# Altium schematic symbol library 开发板设计库.SchLib: 55 symbols
Pins are listed as number, name and electrical type; pins without a type are passive.

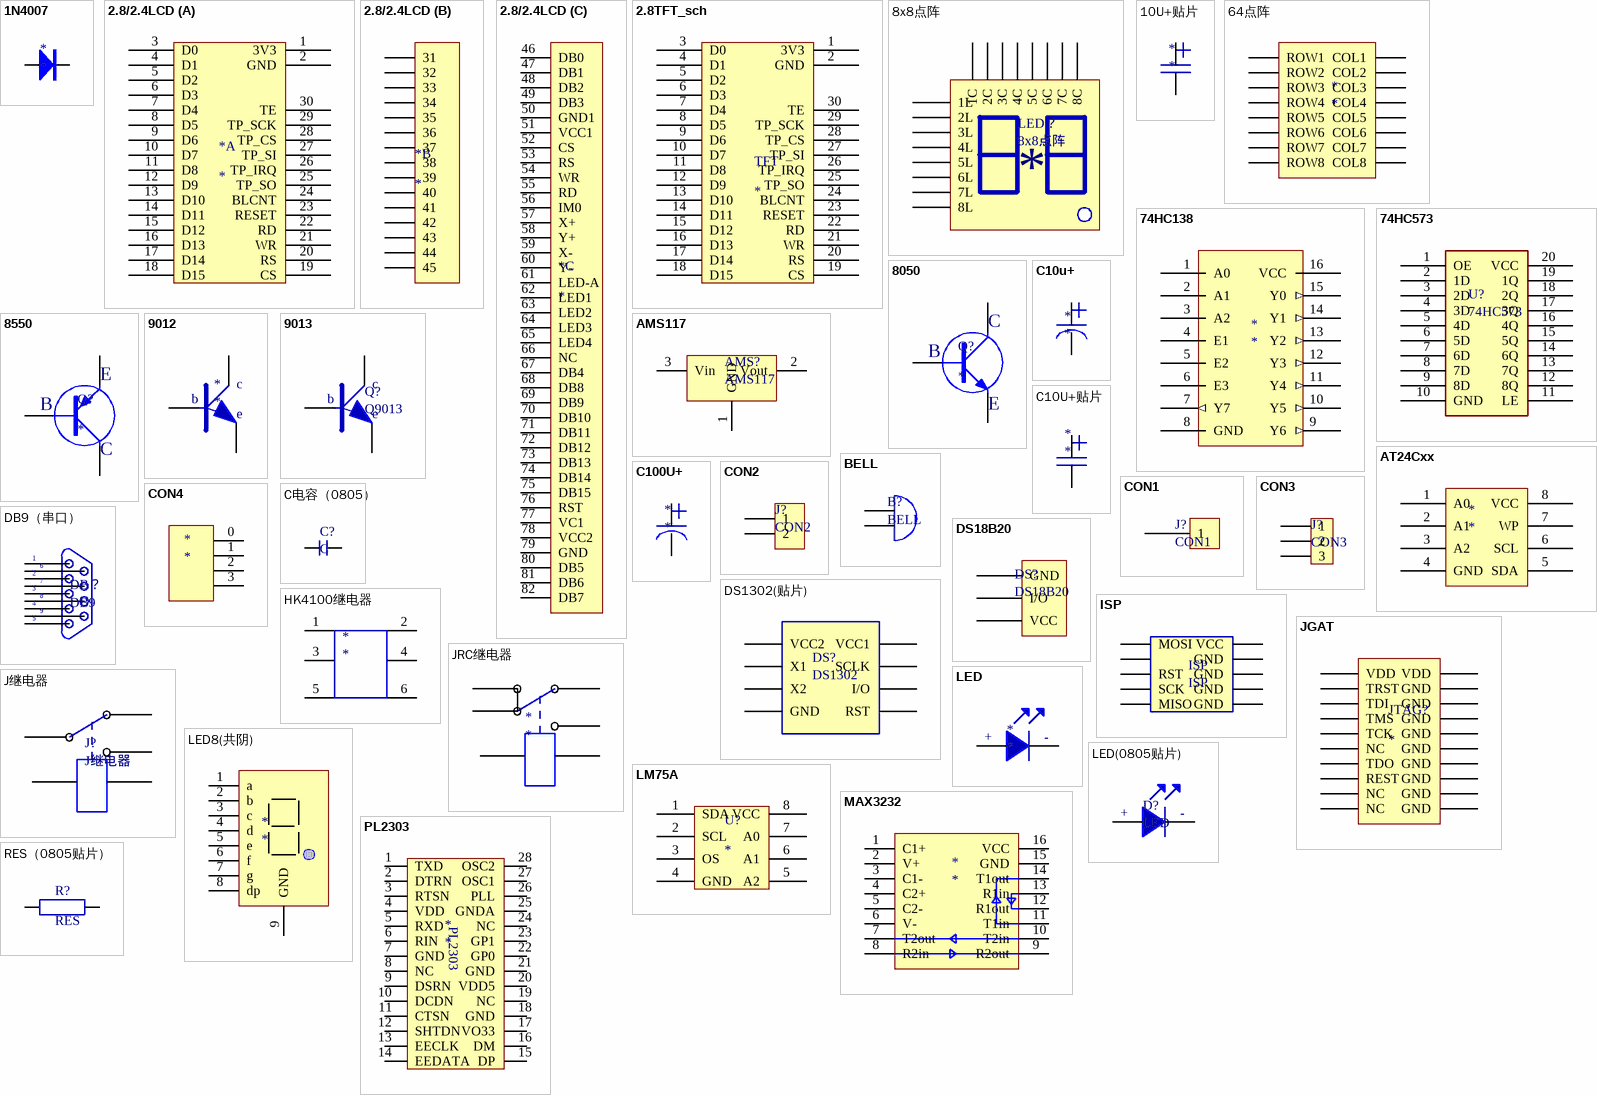
[diagram p0: symbols 1N4007 to RES（0805贴片）]

## 1N4007
designator *
pins: 0, 1

## 2.8/2.4LCD
designator *
footprint 2.8TFT_SCH - duplicate
part A pins: 1 3V3, 2 GND, 3 D0, 4 D1, 5 D2, 6 D3, 7 D4, 8 D5, 9 D6, 10 D7, 11 D8, 12 D9, 13 D10, 14 D11, 15 D12, 16 D13, 17 D14, 18 D15, 19 CS, 20 RS, 21 WR, 22 RD, 23 RESET, 24 BLCNT, 25 TP_SO, 26 TP_IRQ, 27 TP_SI, 28 TP_CS, 29 TP_SCK, 30 TE
part B pins: 31, 32, 33, 34, 35, 36, 37, 38, 39, 40, 41, 42, 43, 44, 45
part C pins: 46 DB0, 47 DB1, 48 DB2, 49 DB3, 50 GND1, 51 VCC1, 52 CS, 53 RS, 54 WR, 55 RD, 56 IM0, 57 X+, 58 Y+, 59 X-, 60 Y-, 61 LED-A, 62 LED1, 63 LED2, 64 LED3, 65 LED4, 66 NC, 67 DB4, 68 DB8, 69 DB9, 70 DB10, 71 DB11, 72 DB12, 73 DB13, 74 DB14, 75 DB15, 76 RST, 77 VC1, 78 VCC2, 79 GND, 80 DB5, 81 DB6, 82 DB7

## 2.8TFT_sch
designator TFT
footprint 2.8TFT_sch
pins: 1 3V3, 2 GND, 3 D0, 4 D1, 5 D2, 6 D3, 7 D4, 8 D5, 9 D6, 10 D7, 11 D8, 12 D9, 13 D10, 14 D11, 15 D12, 16 D13, 17 D14, 18 D15, 19 CS, 20 RS, 21 WR, 22 RD, 23 RESET, 24 BLCNT, 25 TP_SO, 26 TP_IRQ, 27 TP_SI, 28 TP_CS, 29 TP_SCK, 30 TE

## 8x8点阵
designator LED？
footprint 8x8点阵
pins: 1 5L, 2 7L, 3 2C, 4 3C, 5 8L, 6 5C, 7 6L, 8 3L, 9 1L, 10 4C, 11 6C, 12 4L, 13 1C, 14 2L, 15 7C, 16 8C

## 10U+贴片
designator *
footprint 10U+贴片
pins: 0, 1

## 64点阵
designator *
footprint 64点阵357mm
pins: 1 ROW1, 2 ROW2, 3 ROW3, 4 ROW4, 5 ROW5, 6 ROW6, 7 ROW7, 8 ROW8, 9 COL8, 10 COL7, 11 COL6, 12 COL5, 13 COL4, 14 COL3, 15 COL2, 16 COL1

## 74HC138
designator *
footprint 74HC138
pins: 1 A0, 2 A1, 3 A2, 4 E1, 5 E2, 6 E3, 7 Y7 (out), 8 GND, 9 Y6 (out), 10 Y5 (out), 11 Y4 (out), 12 Y3 (out), 13 Y2 (out), 14 Y1 (out), 15 Y0 (out), 16 VCC

## 74HC573
designator U?
footprint 74HC573
pins: 1 OE, 2 1D, 3 2D, 4 3D, 5 4D, 6 5D, 7 6D, 8 7D, 9 8D, 10 GND, 11 LE, 12 8Q, 13 7Q, 14 6Q, 15 5Q, 16 4Q, 17 3Q, 18 2Q, 19 1Q, 20 VCC

## 8050
designator Q?
footprint 8050
pins: 1 C, 2 B, 3 E

## 8550
designator Q?
footprint 8550
pins: 1 E, 2 B, 3 C

## 9012
designator *
pins: 1, 2, 3
text: c; b; e

## 9013
designator Q?, comment Q9013
footprint 9013
pins: 1, 2, 3
text: c; b; e

## AMS117
designator AMS?
footprint AMS117
pins: 1 GND, 2 Vout, 3 Vin

## AT24Cxx
designator *
footprint AT24Cxx
pins: 1 A0, 2 A1, 3 A2, 4 GND, 5 SDA, 6 SCL, 7 WP, 8 VCC

## BELL
designator B?
footprint BELL
pins: 1, 2

## C10u+
designator *
footprint C10U+
pins: 0, 1

## C10U+贴片
designator *
footprint C10U+(贴片)
pins: 0, 1

## C100U+
designator *
footprint C100U+
pins: 0, 1

## CON1
designator J?
footprint CON1
pins: 1

## CON2
designator J?
footprint CON2
pins: 1, 2

## CON3
designator J?
footprint CON3
pins: 1, 2, 3

## CON4
designator *
footprint CON4
pins: 0, 1, 2, 3

## C电容（0805）
designator C?, comment C
footprint 0805
pins: 1, 2

## DB9（串口）
designator DB？, comment DB9
footprint DB9（串口）
pins: 1, 2, 3, 4, 5, 6, 7, 8, 9

## DS18B20
designator DS?
footprint DS18B20
pins: 1 GND, 2 I/O, 3 VCC

## DS1302(贴片)
designator DS?, comment DS1302
footprint DS1302(贴片)
pins: 1 VCC2, 2 X1, 3 X2, 4 GND, 5 RST, 6 I/O, 7 SCLK, 8 VCC1

## HK4100继电器
designator *
footprint HK4100继电器
pins: 1, 2, 3, 4, 5, 6

## ISP
designator ISP
footprint ISP
pins: 1 MOSI, 2, 3 RST, 4 SCK, 5 MISO, 6 GND, 7 GND, 8 GND, 9 GND, 10 VCC

## JGAT
designator JTAG?
footprint JTAG
pins: 1 VDD, 2 VDD, 3 TRST, 4 GND, 5 TDI, 6 GND, 7 TMS, 8 GND, 9 TCK, 10 GND, 11 NC, 12 GND, 13 TDO, 14 GND, 15 REST, 16 GND, 17 NC, 18 GND, 19 NC, 20 GND

## JRC继电器
designator *
footprint JRC继电器
pins: 1, 2, 3, 4, 5, 6

## J继电器
designator J?
footprint J继电器
pins: 1, 2, 3, 4, 5

## LED
designator *
footprint LED
footprint LED
footprint LEDSMALL
pins: 1, 2
text: +; -

## LED8(共阴)
designator *
footprint LED8（共阴）
pins: 1 a, 2 b, 3 c, 4 d, 5 e, 6 f, 7 g, 8 dp, 9 GND

## LED(0805贴片)
designator D?, comment LED
footprint 0805
pins: 1, 2
text: +; -

## LM75A
designator U?
footprint LM75A
pins: 1 SDA, 2 SCL, 3 OS, 4 GND, 5 A2, 6 A1, 7 A0, 8 VCC

## MAX3232
designator *
footprint MAX3232
pins: 1 C1+, 2 V+, 3 C1-, 4 C2+, 5 C2-, 6 V-, 7 T2out, 8 R2in, 9 R2out, 10 T2in, 11 T1in, 12 R1out, 13 R1in, 14 T1out, 15 GND, 16 VCC

## PL2303
designator *
footprint PL2303
pins: 1 TXD, 2 DTRN, 3 RTSN, 4 VDD, 5 RXD, 6 RIN, 7 GND, 8 NC, 9 DSRN, 10 DCDN, 11 CTSN, 12 SHTDN, 13 EECLK, 14 EEDATA, 15 DP, 16 DM, 17 VO33, 18 GND, 19 NC, 20 VDD5, 21 GND, 22 GP0, 23 GP1, 24 NC, 25 GNDA, 26 PLL, 27 OSC1, 28 OSC2

## RES（0805贴片）
designator R?, comment RES
footprint 0805
pins: 1, 2

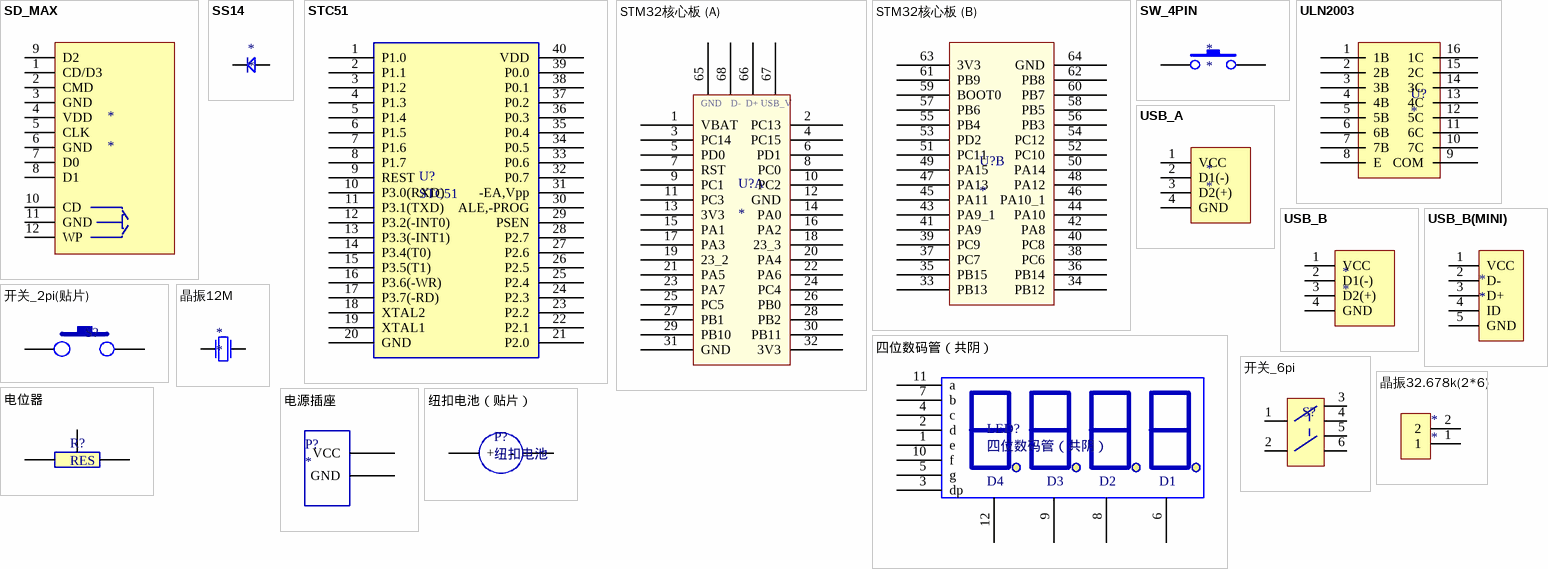
[diagram p1: symbols SD_MAX to 纽扣电池（贴片）]

## SD_MAX
designator *
footprint SD_MAX
pins: 1 CD/D3, 2 CMD, 3 GND, 4 VDD, 5 CLK, 6 GND, 7 D0, 8 D1, 9 D2, 10 CD, 11 GND, 12 WP

## SS14
designator *
footprint SS14
pins: 0, 1

## STC51
designator U?
footprint STC51(直插)
pins: 1 P1.0, 2 P1.1, 3 P1.2, 4 P1.3, 5 P1.4, 6 P1.5, 7 P1.6, 8 P1.7, 9 REST, 10 P3.0(RXD), 11 P3.1(TXD), 12 P3.2(-INT0), 13 P3.3(-INT1), 14 P3.4(T0), 15 P3.5(T1), 16 P3.6(-WR), 17 P3.7(-RD), 18 XTAL2, 19 XTAL1, 20 GND, 21 P2.0, 22 P2.1, 23 P2.2, 24 P2.3, 25 P2.4, 26 P2.5, 27 P2.6, 28 P2.7, 29 PSEN, 30 ALE,-PROG, 31 -EA,Vpp, 32 P0.7, 33 P0.6, 34 P0.5, 35 P0.4, 36 P0.3, 37 P0.2, 38 P0.1, 39 P0.0, 40 VDD

## STM32核心板
designator U?
footprint STM32核心板
part A pins: 1 VBAT, 2 PC13, 3 PC14, 4 PC15, 5 PD0, 6 PD1, 7 RST, 8 PC0, 9 PC1, 10 PC2, 11 PC3, 12 GND, 13 3V3, 14 PA0, 15 PA1, 16 PA2, 17 PA3, 18 23_3, 19 23_2, 20 PA4, 21 PA5, 22 PA6, 23 PA7, 24 PC4, 25 PC5, 26 PB0, 27 PB1, 28 PB2, 29 PB10, 30 PB11, 31 GND, 32 3V3, 65 gnd, 66 D+, 67, 68 D-
part B pins: 33 PB13, 34 PB12, 35 PB15, 36 PB14, 37 PC7, 38 PC6, 39 PC9, 40 PC8, 41 PA9, 42 PA8, 43 PA9_1, 44 PA10, 45 PA11, 46 PA10_1, 47 PA13, 48 PA12, 49 PA15, 50 PA14, 51 PC11, 52 PC10, 53 PD2, 54 PC12, 55 PB4, 56 PB3, 57 PB6, 58 PB5, 59 BOOT0, 60 PB7, 61 PB9, 62 PB8, 63 3V3, 64 GND
part A text: USB_V

## SW_4PIN
designator *
footprint SW_4PIN
pins: 1, 2

## ULN2003
designator U?
footprint ULN2003
pins: 1 1B, 2 2B, 3 3B, 4 4B, 5 5B, 6 6B, 7 7B, 8 E, 9 COM, 10 7C, 11 6C, 12 5C, 13 4C, 14 3C, 15 2C, 16 1C

## USB_A
designator *
footprint USB_A
pins: 1 VCC, 2 D1(-), 3 D2(+), 4 GND

## USB_B
designator *
footprint USB_B
pins: 1 VCC, 2 D1(-), 3 D2(+), 4 GND

## USB_B(MINI)
designator *
footprint USB_B(MINI)
pins: 1 VCC, 2 D-, 3 D+, 4 ID, 5 GND

## 四位数码管（共阴）
designator LED?
footprint 四位数码管（共阴）
pins: 1 e, 2 d, 3 dp, 4 c, 5 g, 6 D1, 7 b, 8 D2, 9 D3, 10 f, 11 a, 12 D4

## 开关_2pi(贴片)
designator S?, comment SW  (value not drawn)
footprint SW_2pi（贴片）
pins: 1, 2

## 开关_6pi
designator S?  (value not drawn)
footprint SW_6pi
pins: 1, 2, 3, 4, 5, 6

## 晶振12M
designator *
footprint 晶振12M
footprint 12M(贴片)
pins: 1 P1, 2 P2

## 晶振32.678k(2*6)
designator *
footprint 32.768K晶振
pins: 1, 2

## 电位器
designator R?, comment RES
footprint 电位器
pins: 1, 2, 3

## 电源插座
designator P?
footprint 电源插座
pins: 1 VCC, 2 GND

## 纽扣电池（贴片）
designator P?, comment 纽扣电池
footprint 纽扣电池
pins: 1 -, 2 +